# Altium schematic symbol library PacBot.SchLib: 10 symbols
Pins are listed as number, name and electrical type; pins without a type are passive.

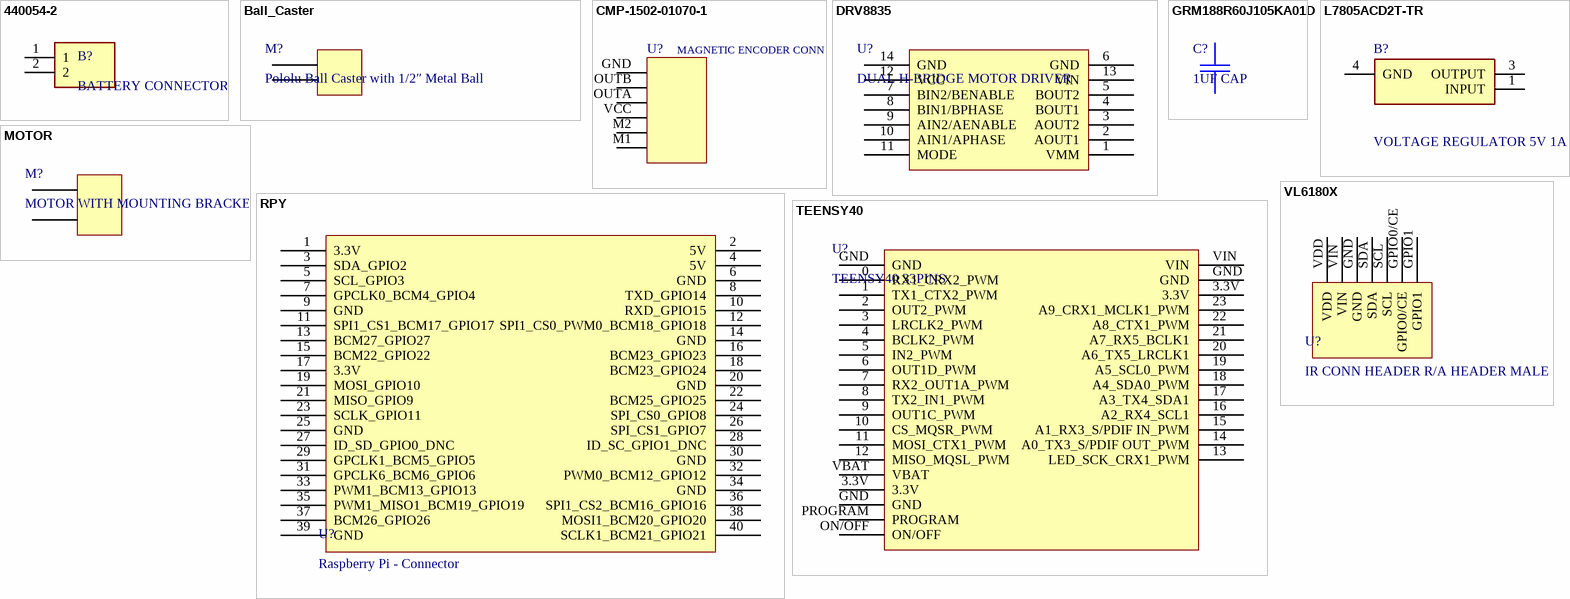
[diagram p0: symbols 440054-2 to VL6180X]

## 440054-2
designator B?, comment BATTERY CONNECTOR
HPI Series; 2mm Pitch 2 Way 1 Row Straight PCB Header; Solder Termination; 3A; Manufacturer: TE Connectivity; MP: 440054-2; Additional Material: 2xfemale dupont wire; Check_prices: https://www.snapeda.com/parts/440054-2/TE+Connectivity+AMP+Connectors/view-part/?ref=eda; Purchase-URL: https://pricing.snapeda.com/search/part/440054-2/?ref=eda; Price: None; EU_RoHS_Compliance: Compliant; SnapEDA_Link: https://www.snapeda.com/parts/440054-2/TE+Connectivity+AMP+Connectors/view-part/?ref=snap; Availability: In Stock; Package: None; ComponentLink1Description: Product URL; ComponentLink1URL: https://www.te.com/usa-en/product-440054-2.html; Manufacture Number: 440054-2; ComponentLink2Description: Additional Material Link; ComponentLink2URL: https://www.pololu.com/category/298/ribbon-cable-premium-jumper-wires; Additional Material Link: https://www.pololu.com/category/298/ribbon-cable-premium-jumper-wires; Product URL: https://www.te.com/usa-en/product-440054-2.html
footprint TE_440054-2
pins: 1, 2

## Ball_Caster
designator M?, comment Pololu Ball Caster with 1/2″ Metal Ball
This ball caster uses a 1/2″ diameter metal ball. The height of the assembled kit ranges from 0.5″ to 0.8″, depending on the combination of included spacers used.; Manufacture Number: 953; Additional Material: 2*M2 screws and nuts for each ball caster; Manufacturer: Pololu; ComponentLink1Description: Product URL; ComponentLink1URL: https://www.pololu.com/product/953/resources; ComponentLink2Description: Additional Material Link; ComponentLink2URL: None; Additional Material Link: None; Product URL: https://www.pololu.com/product/953/resources
footprint Ball_Caster (2_HOLES_W800MIL_L600MIL)
pins: 1, 2

## CMP-1502-01070-1
designator U?, comment MAGNETIC ENCODER CONN
THT Vertical Pin Header WR-PHD, Pitch 2.54 mm, Single Row, 6 pins; Manufacture Number: 61300611121; Manufacturer: Wurth Elektronik; Gender: Male; Pin Number: 6; Pitch: 2.54mm; Working Voltage: 250VAC; Rated Current: 3A; Withstanding Voltage: 500VAC; Contact Resistance: 20mOhm; Additional Material: 6*female dupont wire per header; Operating Temperature: -40to105degC; Packaging: Bag; Datasheet URL: https://katalog.we-online.de/em/datasheet/6130xx11121.pdf; Package Reference: 61300611121; Mounting Technology: THT; Publisher: WurthElektronik; Manufacturer URL: http://www.we-online.de; Row Number: Single; Orientation: Vertical; ComponentLink1Description: Product URL; ComponentLink1URL: https://www.digikey.com/en/products/detail/w%C3%BCrth-elektronik/61300611121/4846833?utm_adgroup=Rectangular%20Connectors%20-%20Headers%2C%20Male%20Pins&utm_source=google&utm_medium=cpc&utm_campaign=Shopping_Product_Connectors%2C%20Interconnects_NEW&utm_term=&utm_content=Rectangular%20Connectors%20-%20Headers%2C%20Male%20Pins&gclid=Cj0KCQiApKagBhC1ARIsAFc7Mc4_cjqnefrDzrpu3JapJRnikEceUeu0HkZKl_cbgEqDj7lyXJ1YyUwaAuZSEALw_wcB; ComponentLink2Description: Additional Material Link; ComponentLink2URL: https://www.pololu.com/category/298/ribbon-cable-premium-jumper-wires; Additional Material Link: https://www.pololu.com/category/298/ribbon-cable-premium-jumper-wires; Product URL: https://www.digikey.com/en/products/detail/w%C3%BCrth-elektronik/61300611121/4846833?utm_adgroup=Rectangular%20Connectors%20-%20Headers%2C%20Male%20Pins&utm_source=google&utm_medium=cpc&utm_campaign=Shopping_Product_Connectors%2C%20Interconnects_NEW&utm_term=&utm_content=Rectangular%20Connectors%20-%20Headers%2C%20Male%20Pins&gclid=Cj0KCQiApKagBhC1ARIsAFc7Mc4_cjqnefrDzrpu3JapJRnikEceUeu0HkZKl_cbgEqDj7lyXJ1YyUwaAuZSEALw_wcB
footprint 61300611121 (Pin Header, pitch 2.54 mm, THT, Vertical, single row, 6p)
pins: GND, M1, M2, OUTA, OUTB, VCC

## DRV8835
designator U?, comment DUAL H-BRIDGE MOTOR DRIVER
Texas Instruments’ DRV8835 is a tiny dual H-bridge motor driver IC that can be used for bidirectional control of two brushed DC motors at 0 V to 11 V.; Manufacturer: Pololu; Manufacture Number: 2135; Additional Material: 2*7-pin 0.1'' male headers per unit; ComponentLink1Description: Product URL; ComponentLink1URL: https://www.pololu.com/product/2135/specs; ComponentLink2Description: Additional Material Link; ComponentLink2URL: https://www.pololu.com/product/965; Additional Material Link: https://www.pololu.com/product/965; Product URL: https://www.pololu.com/product/2135/specs
footprint DRV8835 (14_PIN_W400MIL_H700MIL)
pins: 1 VMM, 2 AOUT1, 3 AOUT2, 4 BOUT1, 5 BOUT2, 6 GND, 7 BIN2/BENABLE, 8 BIN1/BPHASE, 9 AIN2/AENABLE, 10 AIN1/APHASE, 11 MODE, 12 VCC, 13 VIN, 14 GND

## GRM188R60J105KA01D
designator C?, comment 1UF CAP
SMD Capacitor X5R(EIA) with Capacitance: 1.0uF Tol. 10%. Rated Voltage: 6.3Vdc; Manufacture Number: GRM188R60J105KA01D; Manufacturer: Murata Electronics; Additional Material: None; DigiKey-Purchase-URL: https://snapeda.com/shop?store=DigiKey&id=341022; SnapEDA_Link: https://www.snapeda.com/parts/GRM188R60J105KA01D/Murata%20Electronics%20North%20America/view-part/341022/?ref=snap; Value: *; Package: 1608 Murata; Digi-Key_Part_Number: 490-1550-1-ND; ComponentLink1Description: Product URL; ComponentLink1URL: https://www.digikey.com/en/products/detail/GRM188R60J105KA01D/490-1550-1-ND/587755?curr=usd&utm_campaign=buynow&utm_medium=aggregator&utm_source=octopart; ComponentLink2Description: Additional Material Link; ComponentLink2URL: None; Additional Material Link: None; Product URL: https://www.digikey.com/en/products/detail/GRM188R60J105KA01D/490-1550-1-ND/587755?curr=usd&utm_campaign=buynow&utm_medium=aggregator&utm_source=octopart
footprint CAPC1608X90N
pins: 1, 2

## L7805ACD2T-TR
designator B?, comment VOLTAGE REGULATOR 5V 1A
Voltage Regulator 5V 1A D2PAK STMicroelectronics L78xx L7805ACD2T-TR, Single Linear Voltage Regulator, 1.5A 5 V, +/-2%, 3-Pin D2PAK; Additional Material: None; Mouser Part Number: 511-L7805ACD2T-TR; Mouser Price/Stock: https://www.mouser.co.uk/ProductDetail/STMicroelectronics/L7805ACD2T-TR?qs=Ctxo64yJVFuOLXlPPZdJUQ%3D%3D; Manufacturer: STMicroelectronics; Manufacture Number: L7805ACD2T-TR; Datasheet Link: http://www.st.com/web/en/resource/technical/document/datasheet/CD00000444.pdf; ComponentLink1Description: Product URL; ComponentLink1URL: https://www.mouser.com/ProductDetail/STMicroelectronics/L7805ACD2T-TR?qs=Ctxo64yJVFuOLXlPPZdJUQ%3D%3D; ComponentLink2Description: Additional Material Link; ComponentLink2URL: None; Additional Material Link: None; Product URL: https://www.mouser.com/ProductDetail/STMicroelectronics/L7805ACD2T-TR?qs=Ctxo64yJVFuOLXlPPZdJUQ%3D%3D
footprint D2PAK-STB35NF10T4
pins: 1 INPUT, 3 OUTPUT, 4 GND

## MOTOR
designator M?, comment MOTOR WITH MOUNTING BRACKET
Manufacturer: Pololu; Manufacture Number: 2379; Additional Material: Pololu Micro Metal Gearmotor Bracket Pair - Black; Additional Material Link: https://www.pololu.com/product/989/resources; Product URL: https://www.pololu.com/product/2379/resources
footprint MOTOR (W460MIL_L1050MIL)
pins: 1, VDD

## RPY
designator U?, comment Raspberry Pi - Connector
RASPBERRYPI GPIO MALE HEADER; Manufacturer: Mouser; Manufacture Number: 474-PRT-14275; Additional Material: 40-Pin RaspberryPi GPIO header per PI; ComponentLink1Description: Product URL; ComponentLink1URL: https://www.raspberrypi.com/products/raspberry-pi-zero-w/; ComponentLink2Description: Additional Material Link; ComponentLink2URL: https://www.digikey.com/en/products/detail/PRT-14275/1568-1675-ND/7428264?curr=usd&utm_campaign=buynow&utm_medium=aggregator&utm_source=octopart; Additional Material Link: https://www.digikey.com/en/products/detail/PRT-14275/1568-1675-ND/7428264?curr=usd&utm_campaign=buynow&utm_medium=aggregator&utm_source=octopart; Product URL: https://www.raspberrypi.com/products/raspberry-pi-zero-w/
footprint RPY (40_PIN_W32MM_h68MM)
pins: 1 3.3V, 2 5V, 3 SDA_GPIO2, 4 5V, 5 SCL_GPIO3, 6 GND, 7 GPCLK0_BCM4_GPIO4, 8 TXD_GPIO14, 9 GND, 10 RXD_GPIO15, 11 SPI1_CS1_BCM17_GPIO17, 12 SPI1_CS0_PWM0_BCM18_GPIO18, 13 BCM27_GPIO27, 14 GND, 15 BCM22_GPIO22, 16 BCM23_GPIO23, 17 3.3V, 18 BCM23_GPIO24, 19 MOSI_GPIO10, 20 GND, 21 MISO_GPIO9, 22 BCM25_GPIO25, 23 SCLK_GPIO11, 24 SPI_CS0_GPIO8, 25 GND, 26 SPI_CS1_GPIO7, 27 ID_SD_GPIO0_DNC, 28 ID_SC_GPIO1_DNC, 29 GPCLK1_BCM5_GPIO5, 30 GND, 31 GPCLK6_BCM6_GPIO6, 32 PWM0_BCM12_GPIO12, 33 PWM1_BCM13_GPIO13, 34 GND, 35 PWM1_MISO1_BCM19_GPIO19, 36 SPI1_CS2_BCM16_GPIO16, 37 BCM26_GPIO26, 38 MOSI1_BCM20_GPIO20, 39 GND, 40 SCLK1_BCM21_GPIO21

## TEENSY40
designator U?, comment TEENSY40 33PINS
Teensy USB Board, Version 4.0. 32 bits arduino compatible microcontroller; Manufacturer: PJRC Store; Additional Material: 33-Pin male headers per Teensy; Manufacture Number: TEENSY40; ComponentLink1Description: Product URL; ComponentLink1URL: https://www.pjrc.com/store/teensy40.html; ComponentLink2Description: Additional Material Link; ComponentLink2URL: https://www.pololu.com/product/965; Additional Material Link: https://www.pololu.com/product/965; Product URL: https://www.pjrc.com/store/teensy40.html
footprint TEENSY40 (33_PIN_W700MIL_H1450MIL)
pins: 0 RX1_CRX2_PWM, 1 TX1_CTX2_PWM, 2 OUT2_PWM, 3 LRCLK2_PWM, 3.3V, 3.3V, 4 BCLK2_PWM, 5 IN2_PWM, 6 OUT1D_PWM, 7 RX2_OUT1A_PWM, 8 TX2_IN1_PWM, 9 OUT1C_PWM, 10 CS_MQSR_PWM, 11 MOSI_CTX1_PWM, 12 MISO_MQSL_PWM, 13 LED_SCK_CRX1_PWM, 14 A0_TX3_S/PDIF OUT_PWM, 15 A1_RX3_S/PDIF IN_PWM, 16 A2_RX4_SCL1, 17 A3_TX4_SDA1, 18 A4_SDA0_PWM, 19 A5_SCL0_PWM, 20 A6_TX5_LRCLK1, 21 A7_RX5_BCLK1, 22 A8_CTX1_PWM, 23 A9_CRX1_MCLK1_PWM, GND, GND, GND, ON/OFF, PROGRAM, VBAT, VIN

## VL6180X
designator U?, comment IR CONN HEADER R/A HEADER MALE
This sensor is a carrier/breakout board for ST’s VL6180X proximity and ambient light sensor, which measures the range to a target object up to 20 cm away (or 60 cm with reduced resolution). The VL6180X uses time-of-flight measurements of infrared pulses for ranging, allowing it to give accurate results independent of the target’s color and surface. Distance and ambient light level measurements can be read through a digital I²C interface. The board has a 2.8 V linear regulator and integrated level-shifters that allow it to work over an input voltage range of 2.7 V to 5.5 V, and the 0.1″ pin spacing makes it easy to use with standard solderless breadboards and 0.1″ perfboards.; Manufacturer: Digi-Key; Manufacturer Number: 2057-PH1RB-14-UA-ND; Additional Material: 7-Pin R/A Male headers per IR; ComponentLink1Description: datasheet; ComponentLink1URL: https://www.st.com/resource/en/datasheet/vl6180x.pdf; ComponentLink2Description: Product URL; ComponentLink2URL: https://www.pololu.com/product/2489/resources; ComponentLink3Description: Additional Material Link; ComponentLink3URL: https://www.digikey.com/en/products/detail/adam-tech/PH1RB-14-UA/9831063?utm_adgroup=Rectangular%20Connectors%20-%20Headers%2C%20Male%20Pins&utm_source=google&utm_medium=cpc&utm_campaign=Shopping_Product_Connectors%2C%20Interconnects_NEW&utm_term=&utm_content=Rectangular%20Connectors%20-%20Headers%2C%20Male%20Pins&gclid=CjwKCAjw_MqgBhAGEiwAnYOAejAbtTqXabENRAXP2u8fN9nntNeUbVp1pwD-yYO_9saqioDVWyq7vhoCJtIQAvD_BwE; Additional Material Link: https://www.digikey.com/en/products/detail/adam-tech/PH1RB-14-UA/9831063?utm_adgroup=Rectangular%20Connectors%20-%20Headers%2C%20Male%20Pins&utm_source=google&utm_medium=cpc&utm_campaign=Shopping_Product_Connectors%2C%20Interconnects_NEW&utm_term=&utm_content=Rectangular%20Connectors%20-%20Headers%2C%20Male%20Pins&gclid=CjwKCAjw_MqgBhAGEiwAnYOAejAbtTqXabENRAXP2u8fN9nntNeUbVp1pwD-yYO_9saqioDVWyq7vhoCJtIQAvD_BwE; Product URL: https://www.pololu.com/product/2489/resources
footprint VL6180X (7_PIN_W700MIL_L530MIL)
pins: GND, GPIO0/CE, GPIO1, SCL, SDA, VDD, VIN